# Altium footprint library V-PDFN-8.PcbLib: 1 footprints
Each footprint in its own frame and in the unit in brackets; x right, y up, seen from the top. Pads: shape width x height; smd on the part's side, far side on the other; paste and mask are expansions set on the pad; w line width, h text height; cw(c..) or ccw(c..) is an arc to the next point about the centre after c.
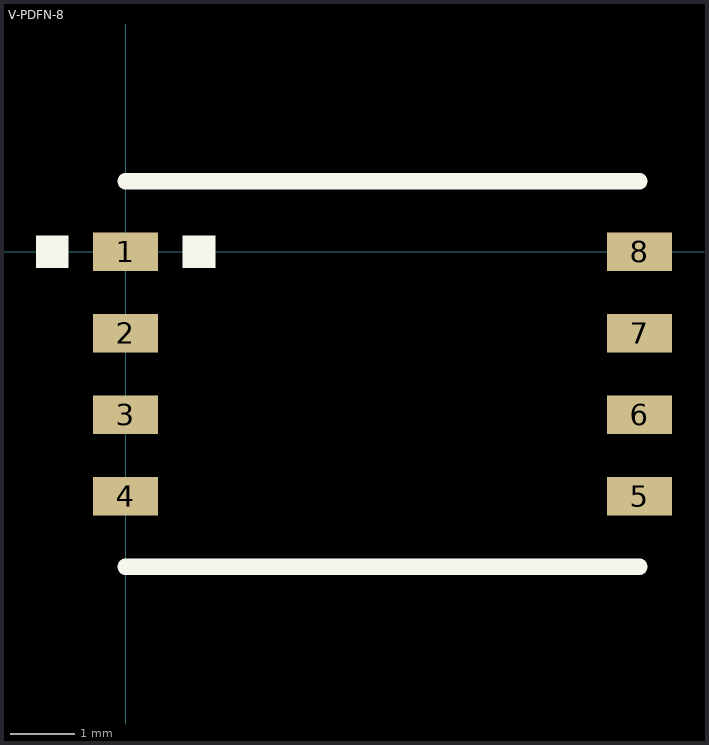
[diagram p0: the footprint, top view; thin cyan lines are the x and y axes]

## V-PDFN-8 [mil]
pads (8):
  rect 40x23.62 smd: 1(0,0) 2(0,-50) 3(0,-100) 4(0,-150) 5(315.04,-150) 6(315.04,-100) 7(315.04,-50) 8(315.04,0)
Top Overlay:
  rectangle: 35,-10 55,10
  rectangle: -55,-10 -35,10
  lines w10: 0,-193.11 315,-193.11 ; 0,43.11 315,43.11
3D body: height 45.9, standoff 0, extent 0,-190 315,40